# Altium schematic symbol library DA.SchLib: 11 symbols
Pins are listed as number, name and electrical type; pins without a type are passive.

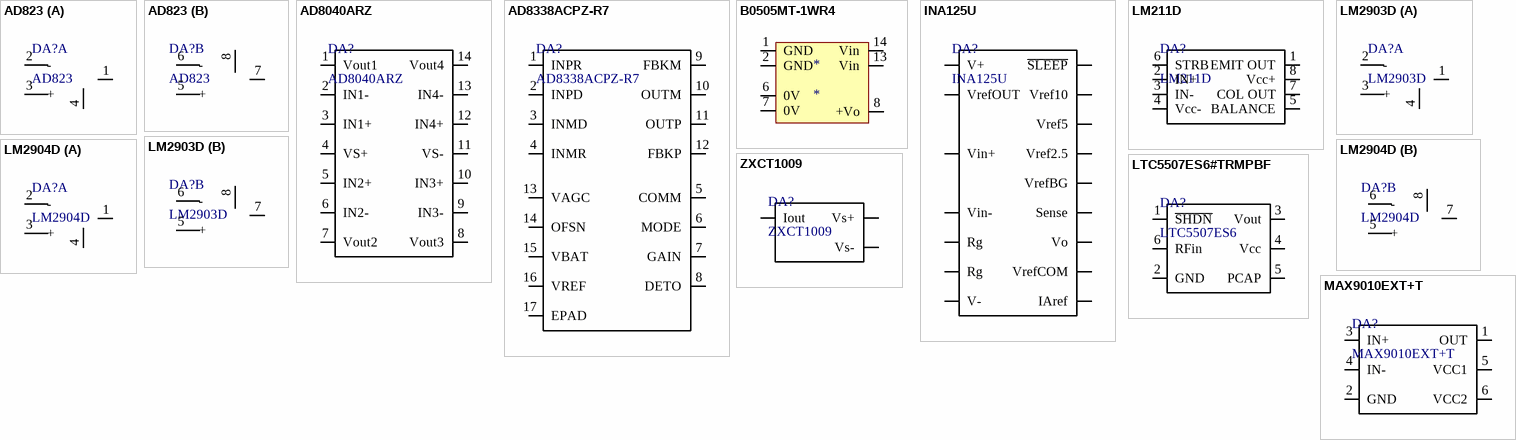
[diagram p0: symbols AD823 to ZXCT1009]

## AD823
designator DA?
Dual, 16 MHz, Rail-to-Rail FET Input Amplifier
footprint SOIC-8 (6x5x1.75 mm)
part A pins: 1 OUT, 2 -, 3 +, 4 -Vs
part B pins: 5 +, 6 -, 7 OUT, 8 +Vs

## AD8040ARZ
designator DA?
High Speed Operational Amplifiers Quad Low Power R-R I/O Amp.
footprint SOIC-14
pins: 1 Vout1, 2 IN1-, 3 IN1+, 4 VS+, 5 IN2+, 6 IN2-, 7 Vout2, 8 Vout3, 9 IN3-, 10 IN3+, 11 VS-, 12 IN4+, 13 IN4-, 14 Vout4

## AD8338ACPZ-R7
designator DA?
IC VARIABLE GAIN 1 CIRC 16LFCSP
footprint LFCSP-16
pins: 1 INPR, 2 INPD, 3 INMD, 4 INMR, 5 COMM, 6 MODE, 7 GAIN, 8 DETO, 9 FBKM, 10 OUTM, 11 OUTP, 12 FBKP, 13 VAGC, 14 OFSN, 15 VBAT, 16 VREF, 17 EPAD

## B0505MT-1WR4
designator *
footprint B_MT-1WR4
pins: 1 GND, 2 GND, 6 0V, 7 0V, 8 +Vo, 13 Vin, 14 Vin

## INA125U
designator DA?
INSTRUMENTATION AMPLIFIER / With Precision Voltage Reference
footprint SOIC-16
pins: 1 V+, 2 ~{SLEEP}, 3 V-, 4 VrefOUT, 5 IAref, 6 Vin+, 7 Vin-, 8 Rg, 9 Rg, 10 Vo, 11 Sense, 12 VrefCOM, 13 VrefBG, 14 Vref2.5, 15 Vref5, 16 Vref10

## LM211D
designator DA?
Comparator General Purpose DTL, MOS, Open-Collector, Open-Emitter, RTL, TTL 8-SOIC
footprint SOIC-8 (6x5x1.75 mm)
pins: 1 EMIT OUT, 2 IN+, 3 IN-, 4 Vcc-, 5 BALANCE, 6 STRB, 7 COL OUT, 8 Vcc+

## LM2903D
designator DA?
Analog Comparators Dual Diff
footprint SOIC-8 (6x5x1.75 mm)
part A pins: 1 OUT, 2 -, 3 +, 4 -Vs
part B pins: 5 +, 6 -, 7 OUT, 8 +Vs

## LM2904D
designator DA?
Operational Amplifiers - Op Amps Dual Low Power
footprint SOIC-8 (6x5x1.75 mm)
part A pins: 1 OUT, 2 -, 3 +, 4 -Vs
part B pins: 5 +, 6 -, 7 OUT, 8 +Vs

## LTC5507ES6#TRMPBF
designator DA?, comment LTC5507ES6
RF Detector 100kHz to 1GHz RF Pwr Detector
footprint SOT-23-6
pins: 1 ~{SHDN}, 2 GND, 3 Vout, 4 Vcc, 5 PCAP, 6 RFin

## MAX9010EXT+T
designator DA?
IC COMPARATOR 1 GEN PUR SC70-6
footprint SC70
pins: 1 OUT, 2 GND, 3 IN+, 4 IN-, 5 VCC1, 6 VCC2

## ZXCT1009
designator DA?
HIGH-SIDE CURRENT MONITOR
footprint SOT-23-3
pins: 1 Iout, 2 Vs+, 3 Vs-